# EAGLE library part ATTINY-X313 (library PiB_ic_microcontrollers)
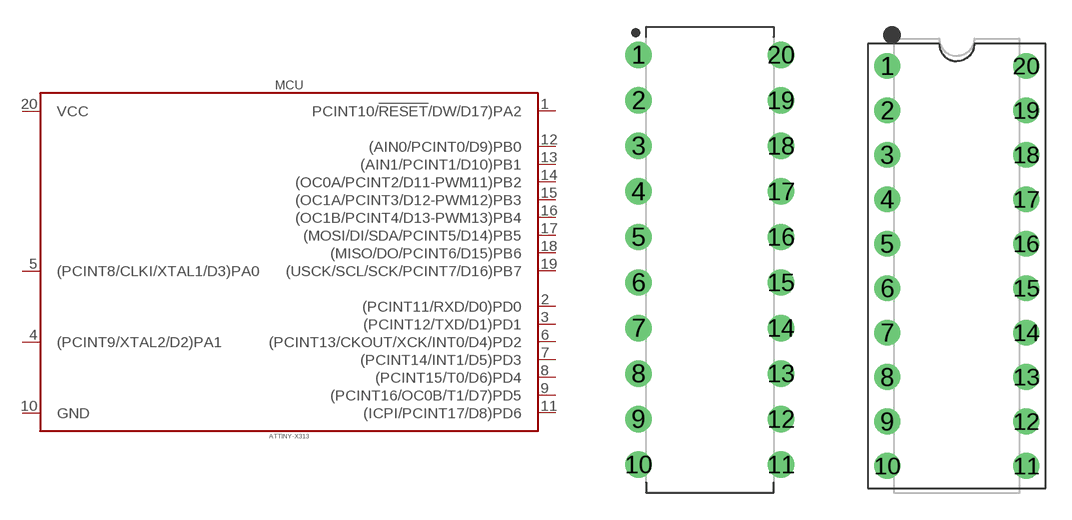
[diagram p6: symbol with the pads of DIP793W45P254L2573H533Q20B_DIP-20_ATTINY-X313; footprints DIP793W45P254L2573H533Q20B_DIP-20_ATTINY-X313, DIP794W46P254L2573H533Q20B_DIP-20_CONNECTOR]

Designator prefix MCU

## ATTINY-X313_DIP-20_ATTINY-4313 (DATASHEET: http://www.microchip.com/mymicrochip/filehandler.aspx?ddocname=en590457; DIST: Digikey; DISTLINK: https://www.digikey.com/products/en?keywords=ATTINY4313-PU-ND; DISTPN: ATTINY4313-PU-ND; MFR: Microchip Technology; MPN: ATTINY4313-PU; VALUE: ATtiny4313)  [DIP793W45P254L2573H533Q20B_DIP-20_ATTINY-X313]
1  PCINT10/!RESET!/DW/D17)PA2
2  (PCINT11/RXD/D0)PD0
3  (PCINT12/TXD/D1)PD1
4  (PCINT9/XTAL2/D2)PA1
5  (PCINT8/CLKI/XTAL1/D3)PA0
6  (PCINT13/CKOUT/XCK/INT0/D4)PD2
7  (PCINT14/INT1/D5)PD3
8  (PCINT15/T0/D6)PD4
9  (PCINT16/OC0B/T1/D7)PD5
10  GND  pas
11  (ICPI/PCINT17/D8)PD6
12  (AIN0/PCINT0/D9)PB0
13  (AIN1/PCINT1/D10)PB1
14  (OC0A/PCINT2/D11-PWM11)PB2
15  (OC1A/PCINT3/D12-PWM12)PB3
16  (OC1B/PCINT4/D13-PWM13)PB4
17  (MOSI/DI/SDA/PCINT5/D14)PB5
18  (MISO/DO/PCINT6/D15)PB6
19  (USCK/SCL/SCK/PCINT7/D16)PB7
20  VCC  pas

## ATTINY-X313DIP-20_ATTINY-4313_CONNECTOR (DATASHEET: http://www.microchip.com/mymicrochip/filehandler.aspx?ddocname=en590457; DATASHEET_CONNECTOR: http://www.assmann-wsw.com/fileadmin/datasheets/ASS_0810_CO.pdf; DIST: Digikey; DISTLINK: https://www.digikey.com/products/en?keywords=ATTINY4313-PU-ND; DISTLINK_CONNECTOR: https://www.digikey.com/products/en?keywords=AE9998-ND; DISTPN: ATTINY4313-PU-ND; DISTPN_CONNECTOR: AE9998-ND; DIST_CONNECTOR: Digikey; MFR: Microchip Technology; MFR_CONNECTOR: Assmann WSW Components; MPN: ATTINY4313-PU; MPN_CONNECTOR: A 20-LC-TT; VALUE: ATtiny4313)  [DIP794W46P254L2573H533Q20B_DIP-20_CONNECTOR]
Pads as for DIP793W45P254L2573H533Q20B_DIP-20_ATTINY-X313

## ATTINY-X313_ATTINY-2313_SOIC-20 (DATASHEET: http://ww1.microchip.com/downloads/en/DeviceDoc/Atmel-2543-AVR-ATtiny2313_Datasheet.pdf; DIST: Digikey; DISTLINK: https://www.digikey.com/products/en?keywords=ATTINY2313-20SU-ND; DISTPN: ATTINY2313-20SU-ND; MFR: Microchip Technology; MPN: ATTINY2313-20SU; VALUE: ATtiny2313)  [SOIC127P1032X265-20]
Pads as for DIP793W45P254L2573H533Q20B_DIP-20_ATTINY-X313

## Footprint DIP793W45P254L2573H533Q20B_DIP-20_ATTINY-X313 (pad centres in mm)
20-DIP, 2.54 mm (0.10 in) pitch, 7.9375 mm (0.31 in) span, 25.7385 X 6.604 X 5.334 mm body 20-pin DIP package with 2.54 mm (0.10 in) pitch, 7.9375 mm (0.31 in) span with body size 25.7385 X 6.604 X 5.334 mm
drill 0.736 pad 1.472: 1 -3.969,11.43; 2 -3.969,8.89; 3 -3.969,6.35; 4 -3.969,3.81; 5 -3.969,1.27; 6 -3.969,-1.27; 7 -3.969,-3.81; 8 -3.969,-6.35; 9 -3.969,-8.89; 10 -3.969,-11.43; 11 3.969,-11.43; 12 3.969,-8.89; 13 3.969,-6.35; 14 3.969,-3.81; 15 3.969,-1.27; 16 3.969,1.27; 17 3.969,3.81; 18 3.969,6.35; 19 3.969,8.89; 20 3.969,11.43

## Footprint DIP794W46P254L2573H533Q20B_DIP-20_CONNECTOR (pad centres in mm)
20-DIP, 2.54 mm (0.10 in) pitch, 7.94 mm (0.31 in) span, 25.735 X 6.605 X 5.33 mm body 20-pin DIP package with 2.54 mm (0.10 in) pitch, 7.94 mm (0.31 in) span with body size 25.735 X 6.605 X 5.33 mm
drill 0.739 pad 1.477: 1 -3.97,11.43; 2 -3.97,8.89; 3 -3.97,6.35; 4 -3.97,3.81; 5 -3.97,1.27; 6 -3.97,-1.27; 7 -3.97,-3.81; 8 -3.97,-6.35; 9 -3.97,-8.89; 10 -3.97,-11.43; 11 3.97,-11.43; 12 3.97,-8.89; 13 3.97,-6.35; 14 3.97,-3.81; 15 3.97,-1.27; 16 3.97,1.27; 17 3.97,3.81; 18 3.97,6.35; 19 3.97,8.89; 20 3.97,11.43

## Footprint SOIC127P1032X265-20 (pad centres in mm)
20-SOIC, 1.27 mm pitch, 10.32 mm span, 12.80 X 7.50 X 2.65 mm body 20-pin SOIC package with 1.27 mm pitch, 10.32 mm span with body size 12.80 X 7.50 X 2.65 mm
smd 2.352 x 0.642: 1 -4.704,5.715; 2 -4.704,4.445; 3 -4.704,3.175; 4 -4.704,1.905; 5 -4.704,0.635; 6 -4.704,-0.635; 7 -4.704,-1.905; 8 -4.704,-3.175; 9 -4.704,-4.445; 10 -4.704,-5.715; 11 4.704,-5.715; 12 4.704,-4.445; 13 4.704,-3.175; 14 4.704,-1.905; 15 4.704,-0.635; 16 4.704,0.635; 17 4.704,1.905; 18 4.704,3.175; 19 4.704,4.445; 20 4.704,5.715